# EAGLE library part SN74AHC74 (library HyTechDevices)
TI SN74AHC74 Dual positive edge triggered D-type FLIP FLOP
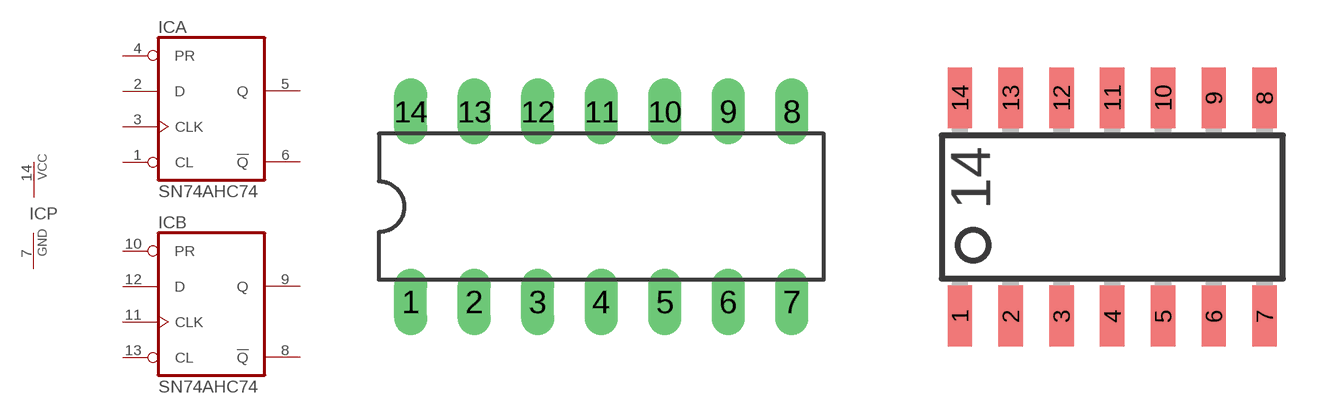
[diagram p60: symbol with the pads of DIL14; footprints DIL14, SOIC-14]

Designator prefix IC; gates A=D_FLIP-FLOP B=D_FLIP-FLOP P=PWRN

## SN74AHC74  [DIL14]
1  A:CL  in
2  A:D  in
3  A:CLK  in
4  A:PR  in
5  A:Q  out
6  A:!Q  out
7  P:GND  pwr
8  B:!Q  out
9  B:Q  out
10  B:PR  in
11  B:CLK  in
12  B:D  in
13  B:CL  in
14  P:VCC  pwr

## SN74AHC74D  [SOIC-14]
Pads as for DIL14

## Footprint DIL14 (pad centres in mm)
Dual In Line Package
drill 0.813 long: 1 -7.62,-3.81; 2 -5.08,-3.81; 3 -2.54,-3.81; 4 0,-3.81; 5 2.54,-3.81; 6 5.08,-3.81; 7 7.62,-3.81; 8 7.62,3.81; 9 5.08,3.81; 10 2.54,3.81; 11 0,3.81; 12 -2.54,3.81; 13 -5.08,3.81; 14 -7.62,3.81

## Footprint SOIC-14 (pad centres in mm)
Small Outline Integrated Circuit
smd 0.61 x 1.524: 1 -4.445,-2.794; 2 -3.175,-2.794; 3 -1.905,-2.794; 4 -0.635,-2.794; 5 0.635,-2.794; 6 1.905,-2.794; 7 3.175,-2.794; 8 3.175,2.667; 9 1.905,2.667; 10 0.635,2.667; 11 -0.635,2.667; 12 -1.905,2.667; 13 -3.175,2.667; 14 -4.445,2.667